# Altium footprint library ELE3PRO_2012.PcbLib: 30 footprints (part 2 of 2)
Each footprint in its own frame and in the unit in brackets; x right, y up, seen from the top. Pads: shape width x height; smd on the part's side, far side on the other; paste and mask are expansions set on the pad; w line width, h text height; cw(c..) or ccw(c..) is an arc to the next point about the centre after c.
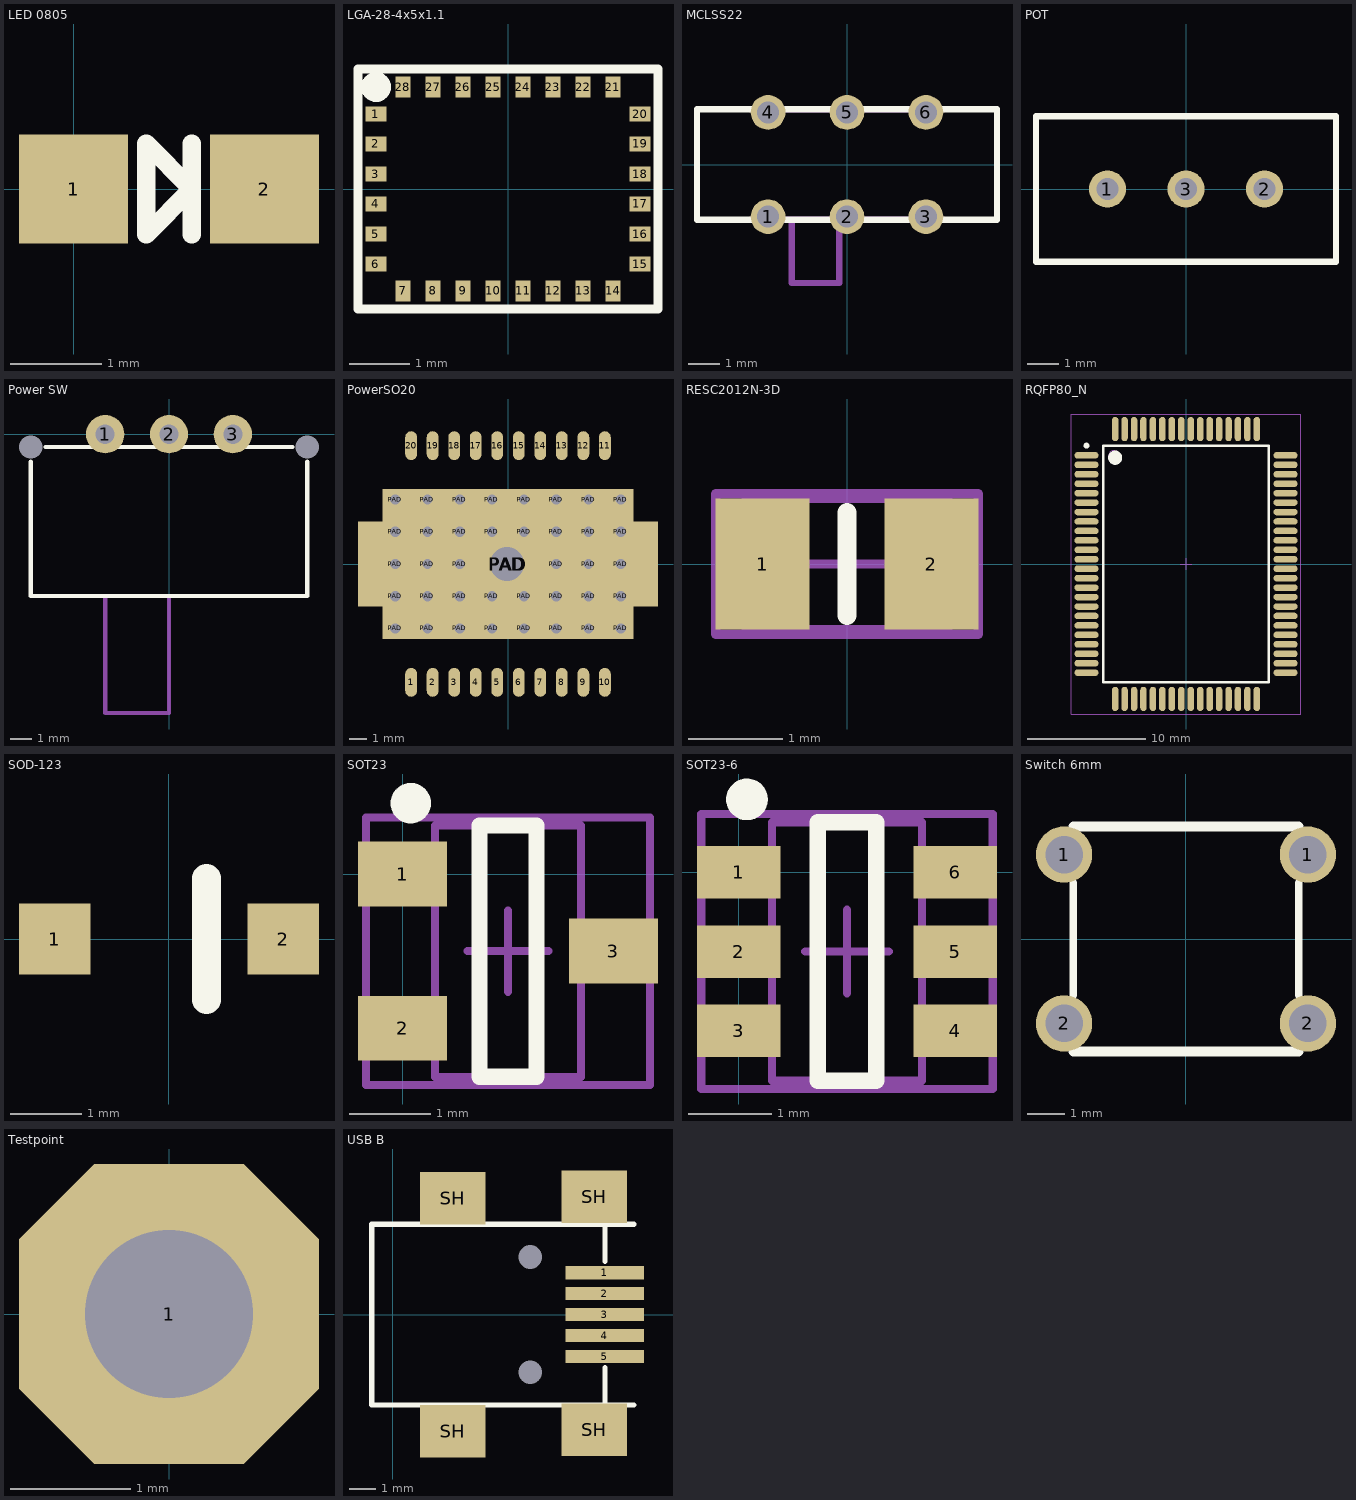
[diagram p1: the footprints below, top view; thin cyan lines are the x and y axes]

## LED 0805 [mm]
height 1.4
pads (2):
  rect 1.2x1.2 smd: 1(0,0) 2(2.1,0)
Top Overlay:
  lines w0.2: 1.3,-0.5 1.3,-0.025 1.3,0.5 ; 0.8,-0.5 0.8,0.5 1.3,0 0.8,-0.5

## LGA-28-4x5x1.1 [mm]
pads (28):
  rect 0.35x0.25 smd mask+0.06: 1(-2.2,1.25) 2(-2.2,0.75) 3(-2.2,0.25) 4(-2.2,-0.25) 5(-2.2,-0.75) 6(-2.2,-1.25) 15(2.2,-1.25) 16(2.2,-0.75) 17(2.2,-0.25) 18(2.2,0.25) 19(2.2,0.75) 20(2.2,1.25)
  rect 0.25x0.35 smd mask+0.06: 7(-1.75,-1.7) 8(-1.25,-1.7) 9(-0.75,-1.7) 10(-0.25,-1.7) 11(0.25,-1.7) 12(0.75,-1.7) 13(1.25,-1.7) 14(1.75,-1.7) 21(1.75,1.7) 22(1.25,1.7) 23(0.75,1.7) 24(0.25,1.7) 25(-0.25,1.7) 26(-0.75,1.7) 27(-1.25,1.7) 28(-1.75,1.7)
Top Overlay:
  circle w0.25: c-2.2,1.7 r0.125
  lines w0.15: -2.5,-2 2.5,-2 2.5,2 -2.5,2 -2.5,-2

## MCLSS22 [mm] "DPDT small"
pads (6):
  round 1.1 hole 0.7 mask+0.06: 1(-2.5,-1.65) 2(0,-1.65) 3(2.5,-1.65) 4(-2.5,1.65) 5(0,1.65) 6(2.5,1.65)
Top Overlay:
  lines w0.2: -3.05,-1.75 -4.75,-1.75 -4.75,1.75 -3.05,1.75 ; -1.95,-1.75 -0.55,-1.75 ; -1.95,1.75 -0.55,1.75 ; 0.55,-1.75 1.95,-1.75 ; 0.55,1.75 1.95,1.75 ; 3.05,-1.75 4.75,-1.75 4.75,1.75 3.05,1.75
Mechanical 1:
  lines w0.2: -3.05,-1.75 3.05,-1.75 ; -3.05,1.75 3.05,1.75 ; -1.75,-1.75 -1.75,-3.75 -0.25,-3.75 -0.25,-1.75

## POT [mm]
pads (3):
  round 1.2 hole 0.7: 1(-2.54,0) 2(2.54,0) 3(0,0)
Top Overlay:
  lines w0.2: -4.85,-2.35 4.85,-2.35 4.85,2.35 -4.85,2.35 -4.85,-2.35

## Power SW [mm]
pads (5):
  round 0 hole 1.1 mask+0.06: 0(-6.5,-0.6) 0(6.5,-0.6)
  round 1.8 hole 0.9 mask+0.06: 1(-3,0) 2(0,0) 3(3,0)
Top Overlay:
  lines w0.2: -6.5,-1.3 -6.5,-7.6 6.5,-7.6 6.5,-1.3 ; -5.8,-0.6 -3.4,-0.6 ; -2.6,-0.6 -0.4,-0.6 ; 0.4,-0.6 2.6,-0.6 ; 3.4,-0.6 5.8,-0.6
Mechanical 1:
  lines w0.2: -3,-7.6 -3,-13.1 0,-13.1 0,-7.6

## PowerSO20 [mm] "STMicro PowerSO20"
pads (63):
  oval 0.7x1.7 smd mask+0.07: 1(-5.715,-6.985) 2(-4.445,-6.985) 3(-3.175,-6.985) 4(-1.905,-6.985) 5(-0.635,-6.985) 6(0.635,-6.985) 7(1.905,-6.985) 8(3.175,-6.985) 9(4.445,-6.985) 10(5.715,-6.985) 11(5.715,6.985) 12(4.445,6.985) 13(3.175,6.985) 14(1.905,6.985) 15(0.635,6.985) 16(-0.635,6.985) 17(-1.905,6.985) 18(-3.175,6.985) 19(-4.445,6.985) 20(-5.715,6.985)
  round 0.9 hole 0.6 mask+0.06: PAD(-6.65,-3.8) PAD(-6.65,-1.9) PAD(-6.65,0) PAD(-6.65,1.9) PAD(-6.65,3.8) PAD(-4.75,-3.8) PAD(-4.75,-1.9) PAD(-4.75,0) PAD(-4.75,1.9) PAD(-4.75,3.8) PAD(-2.85,-3.8) PAD(-2.85,-1.9) PAD(-2.85,0) PAD(-2.85,1.9) PAD(-2.85,3.8) PAD(-0.95,-3.8) PAD(-0.95,-1.9) PAD(-0.95,1.9) PAD(-0.95,3.8) PAD(0.95,-3.8) PAD(0.95,-1.9) PAD(0.95,1.9) PAD(0.95,3.8) PAD(2.85,-3.8) PAD(2.85,-1.9) PAD(2.85,0) PAD(2.85,1.9) PAD(2.85,3.8) PAD(4.75,-3.8) PAD(4.75,-1.9) PAD(4.75,0) PAD(4.75,1.9) PAD(4.75,3.8) PAD(6.65,-3.8) PAD(6.65,-1.9) PAD(6.65,0) PAD(6.65,1.9) PAD(6.65,3.8)
  round 2.5 hole 2 mask+0.06: PAD(-0.069,0)
  rect 14.8x8.828 smd mask+0.06: PAD(0,0)
  rect 9.8x6.2 smd mask+0.06: PAD(0,0)
  rect 17.7x3 smd mask+0.06: PAD(0,0)
  rect 17.7x5 smd mask+0.06: PAD(0,0)
3D body: height 3.6, standoff 0, extent -8,-7.2 8,7.2

## RESC2012N-3D [mm] "Chip Resistor, Body 2.0x1.3mm"
height 2.54
pads (2):
  rect 1x1.4 smd: 1(-0.9,0) 2(0.9,0)
Top Overlay:
  lines w0.2: 0,-0.55 0,0.55
Mechanical 13:
  lines w0.1: -1.075,-0.7 1.075,-0.7 1.075,0.7 -1.075,0.7 -1.075,-0.7
Mechanical 15:
  lines w0.1: -0.5,0 0.5,0 ; 0,-0.5 0,0.5 ; -1.4,-0.75 1.4,-0.75 1.4,0.75 -1.4,0.75 -1.4,-0.75
3D body: height 0.78, standoff 0, extent -1,-0.625 1,0.625

## RQFP80_N [mm] "80-Pin Quad Flat Pack Rectangular 0.8 mm Pitch, IPC Medium Density"
height 3.05
pads (80):
  oval 2.05x0.55 smd: 1(-8.425,9.2) 2(-8.425,8.4) 3(-8.425,7.6) 4(-8.425,6.8) 5(-8.425,6) 6(-8.425,5.2) 7(-8.425,4.4) 8(-8.425,3.6) 9(-8.425,2.8) 10(-8.425,2) 11(-8.425,1.2) 12(-8.425,0.4) 13(-8.425,-0.4) 14(-8.425,-1.2) 15(-8.425,-2) 16(-8.425,-2.8) 17(-8.425,-3.6) 18(-8.425,-4.4) 19(-8.425,-5.2) 20(-8.425,-6) 21(-8.425,-6.8) 22(-8.425,-7.6) 23(-8.425,-8.4) 24(-8.425,-9.2) 41(8.425,-9.2) 42(8.425,-8.4) 43(8.425,-7.6) 44(8.425,-6.8) 45(8.425,-6) 46(8.425,-5.2) 47(8.425,-4.4) 48(8.425,-3.6) 49(8.425,-2.8) 50(8.425,-2) 51(8.425,-1.2) 52(8.425,-0.4) 53(8.425,0.4) 54(8.425,1.2) 55(8.425,2) 56(8.425,2.8) 57(8.425,3.6) 58(8.425,4.4) 59(8.425,5.2) 60(8.425,6) 61(8.425,6.8) 62(8.425,7.6) 63(8.425,8.4) 64(8.425,9.2)
  oval 0.55x2.05 smd: 25(-6,-11.425) 26(-5.2,-11.425) 27(-4.4,-11.425) 28(-3.6,-11.425) 29(-2.8,-11.425) 30(-2,-11.425) 31(-1.2,-11.425) 32(-0.4,-11.425) 33(0.4,-11.425) 34(1.2,-11.425) 35(2,-11.425) 36(2.8,-11.425) 37(3.6,-11.425) 38(4.4,-11.425) 39(5.2,-11.425) 40(6,-11.425) 65(6,11.425) 66(5.2,11.425) 67(4.4,11.425) 68(3.6,11.425) 69(2.8,11.425) 70(2,11.425) 71(1.2,11.425) 72(0.4,11.425) 73(-0.4,11.425) 74(-1.2,11.425) 75(-2,11.425) 76(-2.8,11.425) 77(-3.6,11.425) 78(-4.4,11.425) 79(-5.2,11.425) 80(-6,11.425)
Top Overlay:
  circle w0.6: c-6,9 r0.3
  circle w0.25: c-8.425,10.025 r0.125
  lines w0.2: -7,-10 7,-10 7,10 -7,10 -7,-10
Mechanical 13:
  circle w0.1: c-6.1,9.1 r0.5
  lines w0.1: -7,-10 7,-10 7,10 -7,10 -7,-10
Mechanical 15:
  lines w0.1: -0.5,0 0.5,0 ; 0,-0.5 0,0.5 ; -9.7,-12.7 9.7,-12.7 9.7,12.7 -9.7,12.7 -9.7,-12.7
3D body: height 3.05, standoff 0, extent -7,-10 7,10

## SOD-123 [mm] "ON-Semi"
pads (2):
  rect 1x1 smd paste+0: 1(-1.6,0) 2(1.6,0)
Top Overlay:
  lines w0.4: 0.525,-0.85 0.525,0.85
3D body: height 1.15, standoff 0, extent -1.85,-0.8 1.85,0.8

## SOT23 [mm]
height 1.19
pads (3):
  rect 1.1x0.8 smd: 1(0,0) 2(0,-1.9) 3(2.6,-0.95)
Top Overlay:
  circle w0.25: c0.1,0.875 r0.125
  lines w0.2: 0.95,-2.5 0.95,0.6 1.65,0.6 1.65,-2.5 0.95,-2.5
Mechanical 13:
  lines w0.1: 0.4,-2.5 2.2,-2.5 2.2,0.6 0.4,0.6 0.4,-2.5
Mechanical 15:
  lines w0.1: 0.8,-0.95 1.8,-0.95 ; 1.3,-1.45 1.3,-0.45 ; -0.45,-2.6 3.05,-2.6 3.05,0.7 -0.45,0.7 -0.45,-2.6
3D body: height 1.19, standoff 0, extent 0.4,-2.5 2.2,0.6

## SOT23-6 [mm] "SOT23, 6-Leads, Body 2.9x1.6mm, Pitch 0.95mm, Lead Span 2.8mm, Ample"
height 1.19
pads (6):
  rect 1x0.63 smd mask+0.07: 1(0,0) 2(0,-0.95) 3(0,-1.9) 4(2.6,-1.9) 5(2.6,-0.95) 6(2.6,0)
Top Overlay:
  circle w0.25: c0.1,0.875 r0.125
  lines w0.2: 0.95,-2.5 0.95,0.6 1.65,0.6 1.65,-2.5 0.95,-2.5
Mechanical 13:
  lines w0.1: 0.4,-2.5 2.2,-2.5 2.2,0.6 0.4,0.6 0.4,-2.5
Mechanical 15:
  lines w0.1: 0.8,-0.95 1.8,-0.95 ; 1.3,-1.45 1.3,-0.45 ; -0.45,-2.6 3.05,-2.6 3.05,0.7 -0.45,0.7 -0.45,-2.6
3D body: height 1.19, standoff 0, extent 0.4,-2.5 2.2,0.6

## Switch 6mm [mm] "Switch 6mm, TH"
pads (4):
  round 1.5 hole 1 paste+0: 1(-3.25,2.25) 1(3.25,2.25) 2(-3.25,-2.25) 2(3.25,-2.25)
Top Overlay:
  lines w0.2: -3,-1.5 -3,1.5 ; 3,-1.5 3,1.5
  lines w0.254: -3,-3 3,-3 ; -3,3 3,3
3D body: height 5, standoff -3.5, extent -3.85,-3 3.85,3

## Testpoint [mm]
pads (1):
  oct 2.5x2.5 hole 1.4 paste+0: 1(0,0)

## USB B [mm]
pads (11):
  round 0 hole 0.9 unplated: 0(5.25,-2.2) 0(5.25,2.2)
  rect 3x0.5 smd mask+0.07: 1(8.1,1.6) 2(8.1,0.8) 3(8.1,0) 4(8.1,-0.8) 5(8.1,-1.6)
  rect 2.5x2 smd: SH(2.3,-4.45) SH(2.3,4.45) SH(7.7,-4.4) SH(7.7,4.5)
Top Overlay:
  lines w0.2: 8.1,2.025 8.1,3.45 ; 9.2,-3.45 -0.8,-3.45 -0.8,3.45 9.2,3.45 ; 8.1,-3.45 8.1,-2.025 8.1,-3.45